# EAGLE library part 691413720017 (library Wurth_Elektronik_Electromechanic_Terminal_Blocks_Connectors_rev15c)
WR-TBL Terminal block - serie 413 5.0mm - Spring clamp/Screw less - 45° entry - 17p Code:Con_TBL_Screwless_5.00_6914137200xxB_691413720017 <http://katalog.we-online.de/media/images/eican/Con_TBL_Screwless_5.00_6914137200xxB_pf2.jpg> Details see: http://katalog.we-online.de/en/em/691_413_720_0xxB/691_413_720_017B?m Created 2014-12-22, aslant tao 2014 (C) Würth Elektronik
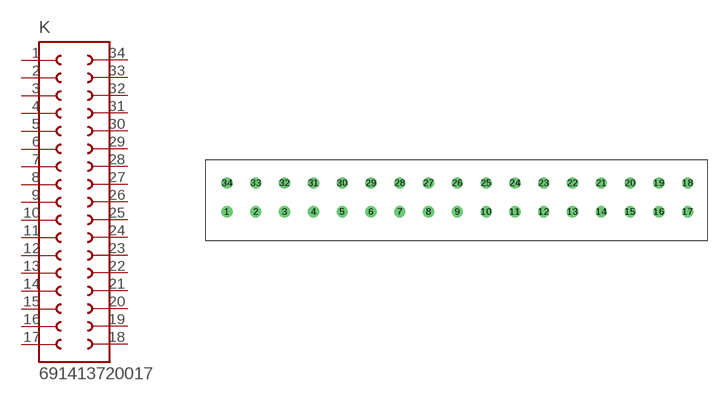
[diagram p294: symbol with the pads of 691413720017; footprint 691413720017]

Designator prefix K

## 691413720017  [691413720017]
1  1  pas
2  2  pas
3  3  pas
4  4  pas
5  5  pas
6  6  pas
7  7  pas
8  8  pas
9  9  pas
10  10  pas
11  11  pas
12  12  pas
13  13  pas
14  14  pas
15  15  pas
16  16  pas
17  17  pas
18  18  pas
19  19  pas
20  20  pas
21  21  pas
22  22  pas
23  23  pas
24  24  pas
25  25  pas
26  26  pas
27  27  pas
28  28  pas
29  29  pas
30  30  pas
31  31  pas
32  32  pas
33  33  pas
34  34  pas

## Footprint 691413720017 (pad centres in mm)
WR-TBL Serie 413 - 5.0mm Screwless 45° Entry - 3 mm2 Wires, 17 Pins
drill 1.3: 1 -15,-2.5; 2 -10,-2.5; 3 -5,-2.5; 4 0,-2.5; 5 5,-2.5; 6 10,-2.5; 7 15,-2.5; 8 20,-2.5; 9 25,-2.5; 10 30,-2.5; 11 35,-2.5; 12 40,-2.5; 13 45,-2.5; 14 50,-2.5; 15 55,-2.5; 16 60,-2.5; 17 65,-2.5; 18 65,2.5; 19 60,2.5; 20 55,2.5; 21 50,2.5; 22 45,2.5; 23 40,2.5; 24 35,2.5; 25 30,2.5; 26 25,2.5; 27 20,2.5; 28 15,2.5; 29 10,2.5; 30 5,2.5; 31 0,2.5; 32 -5,2.5; 33 -10,2.5; 34 -15,2.5